# Altium footprint library CH340.PcbLib: 1 footprints
Each footprint in its own frame and in the unit in brackets; x right, y up, seen from the top. Pads: shape width x height; smd on the part's side, far side on the other; paste and mask are expansions set on the pad; w line width, h text height; cw(c..) or ccw(c..) is an arc to the next point about the centre after c.
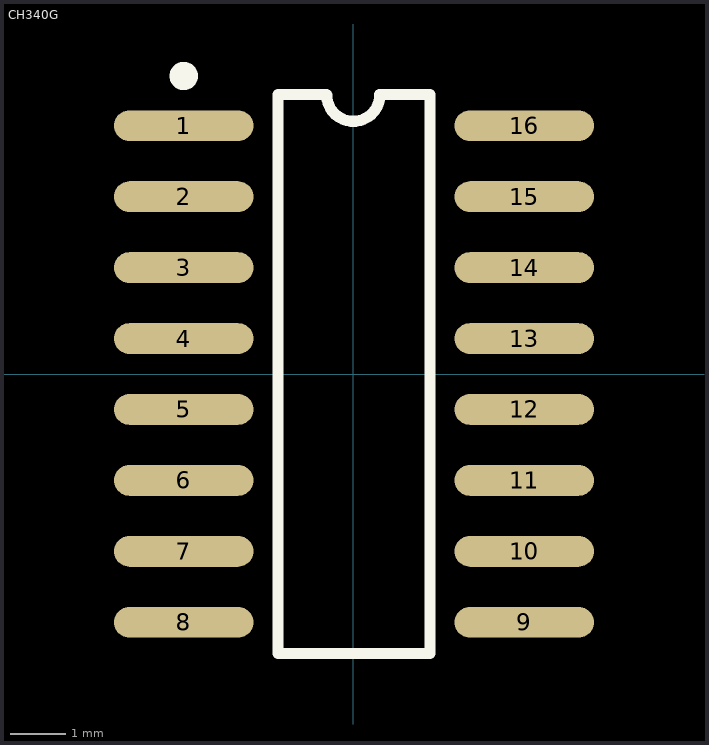
[diagram p0: the footprint, top view; thin cyan lines are the x and y axes]

## CH340G [mm] "SOP, 16-Leads, Body 9.90x3.90mm, Pitch 1.27mm, IPC Medium Density"
height 1.75
pads (16):
  oval 2.5x0.55 smd: 1(-3.035,4.445) 2(-3.035,3.175) 3(-3.035,1.905) 4(-3.035,0.635) 5(-3.035,-0.635) 6(-3.035,-1.905) 7(-3.035,-3.175) 8(-3.035,-4.445) 9(3.06,-4.445) 10(3.06,-3.175) 11(3.06,-1.905) 12(3.06,-0.635) 13(3.06,0.635) 14(3.06,1.905) 15(3.06,3.175) 16(3.06,4.445)
Top Overlay:
  circle w0.254: c-3.035,5.334 r0.127
  lines w0.2: -0.483,5 -1.346,5 -1.346,-5 1.372,-5 1.372,5 0.475,5 ; -0.475,4.997 ccw(c0,4.996) 0.475,4.997
3D body: height 1.45, standoff 0, extent -2.927,-4.978 2.978,5.004